# Altium schematic symbol library MXT2088.SchLib: 2 symbols
Pins are listed as number, name and electrical type; pins without a type are passive.

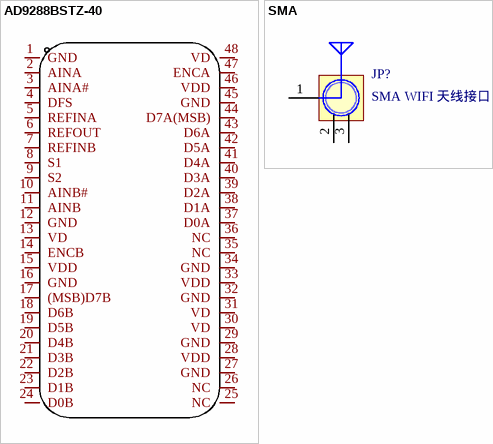
[diagram p0: symbols AD9288BSTZ-40 to SMA]

## AD9288BSTZ-40
designator U?  (value not drawn)
Manufacturer: ADI(亚德诺); Add into BOM: yes; Interface: 并行; differential input: 是; number of channels: 2; sampling frequency: 40MHz; resolution: 8位; Supply Voltage: 2.7V~3.6V; Name: AD9288BSTZ-40; Symbol: AD9288BSTZ-40; Device: AD9288BSTZ-40; LCSC Part Name: AD9288BSTZ-40; Supplier Part: C653455; Manufacturer Part: AD9288BSTZ-40; Supplier Footprint: LQFP-48(7x7); JLCPCB Part Class: Extended Part; Datasheet: https://atta.szlcsc.com/upload/public/pdf/source/20140508/1457707057464.pdf; Supplier: LCSC; Convert to PCB: yes; Operating Temperature: -40℃~+85℃
footprint LQFP48 7X7_L (48脚，体宽7x7mm，脚距0.5mm)
3D model LQFP-48_L7.0-W7.0-H1.4-LS9.0-P0.50
pins: 1 GND, 2 AINA, 3 AINA#, 4 DFS, 5 REFINA, 6 REFOUT, 7 REFINB, 8 S1, 9 S2, 10 AINB#, 11 AINB, 12 GND, 13 VD, 14 ENCB, 15 VDD, 16 GND, 17 (MSB)D7B, 18 D6B, 19 D5B, 20 D4B, 21 D3B, 22 D2B, 23 D1B, 24 D0B, 25 NC, 26 NC, 27 GND, 28 VDD, 29 GND, 30 VD, 31 VD, 32 GND, 33 VDD, 34 GND, 35 NC, 36 NC, 37 D0A, 38 D1A, 39 D2A, 40 D3A, 41 D4A, 42 D5A, 43 D6A, 44 D7A(MSB), 45 GND, 46 VDD, 47 ENCA, 48 VD

## SMA
designator JP?, comment SMA WIFI 天线接口
SMA-2.4G射频天线接口; 版权归属: 源创客; BOM名称: SMA-2.4G射频天线接口; 学习资源: www.ooocke.com
footprint SMA_FR
footprint SMA-KE (Footprint not found)
footprint SMA-KE-LI (SMA 立式直插射频天线座)
pins: 1 ANT, 2 GND, 3 GND